# EAGLE library part KL26Z-QFN32 (library everykey)
NXP/Freescale Kinetis KL26Z Cortex M0+ microcontroller, 32-pin version
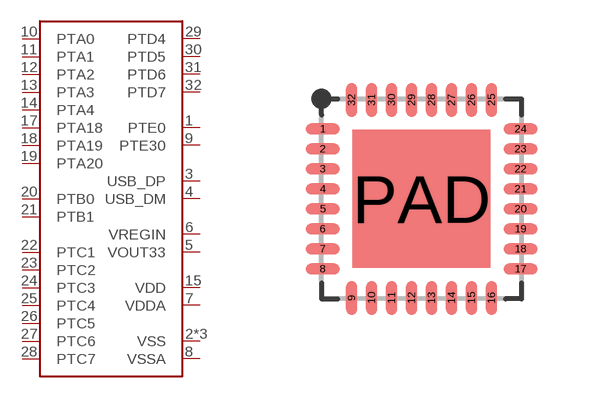
[diagram p92: symbol with the pads of QFN32-0.5-EP; footprint QFN32-0.5-EP]

Designator prefix IC

## KL26Z-QFN32  [QFN32-0.5-EP]
1  PTE0
2  VSS  pwr
3  USB_DP
4  USB_DM
5  VOUT33  pwr
6  VREGIN  pwr
7  VDDA  pwr
8  VSSA  pwr
9  PTE30
10  PTA0
11  PTA1
12  PTA2
13  PTA3
14  PTA4
15  VDD  pwr
16  VSS  pwr
17  PTA18
18  PTA19
19  PTA20
20  PTB0
21  PTB1
22  PTC1
23  PTC2
24  PTC3
25  PTC4
26  PTC5
27  PTC6
28  PTC7
29  PTD4
30  PTD5
31  PTD6
32  PTD7
PAD  VSS  pwr

## Footprint QFN32-0.5-EP (pad centres in mm)
QFN package, 32 pins, 0.5mm pitch, exposed pad
smd 0.85 x 0.28: 1 -2.475,1.75; 2 -2.475,1.25; 3 -2.475,0.75; 4 -2.475,0.25; 5 -2.475,-0.25; 6 -2.475,-0.75; 7 -2.475,-1.25; 8 -2.475,-1.75; 17 2.475,-1.75; 18 2.475,-1.25; 19 2.475,-0.75; 20 2.475,-0.25; 21 2.475,0.25; 22 2.475,0.75; 23 2.475,1.25; 24 2.475,1.75
smd 0.28 x 0.85: 9 -1.75,-2.475; 10 -1.25,-2.475; 11 -0.75,-2.475; 12 -0.25,-2.475; 13 0.25,-2.475; 14 0.75,-2.475; 15 1.25,-2.475; 16 1.75,-2.475; 25 1.75,2.475; 26 1.25,2.475; 27 0.75,2.475; 28 0.25,2.475; 29 -0.25,2.475; 30 -0.75,2.475; 31 -1.25,2.475; 32 -1.75,2.475
smd 3.45 x 3.45: PAD 0,0